# EAGLE library part MY1690-16S (library MY1690)
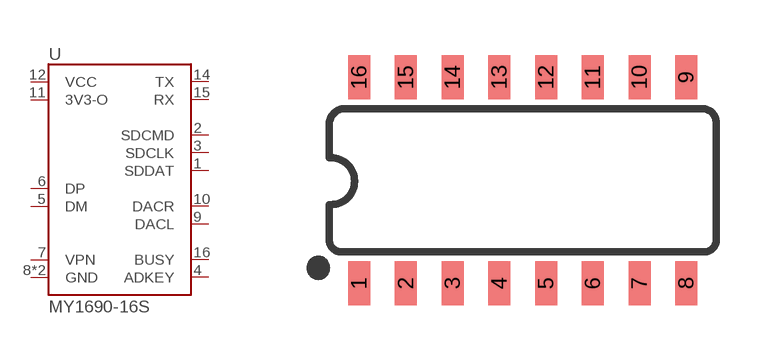
[diagram p0: symbol with the pads of SO16; footprint SO16]

Designator prefix U

## MY1690-16S  [SO16]
1  SDDAT
2  SDCMD
3  SDCLK
4  ADKEY
5  DM
6  DP
7  VPN
8  GND
9  DACL
10  DACR
11  3V3-O
12  VCC
13  GND
14  TX
15  RX
16  BUSY

## Footprint SO16 (pad centres in mm)
SOIC, 0.15 inch width
smd 0.6 x 1.2: 1 -4.445,-2.8; 2 -3.175,-2.8; 3 -1.905,-2.8; 4 -0.635,-2.8; 5 0.635,-2.8; 6 1.905,-2.8; 7 3.175,-2.8; 8 4.445,-2.8; 9 4.445,2.8; 10 3.175,2.8; 11 1.905,2.8; 12 0.635,2.8; 13 -0.635,2.8; 14 -1.905,2.8; 15 -3.175,2.8; 16 -4.445,2.8